# EAGLE library part CON_HEADER_1X06 (library dp_devices)
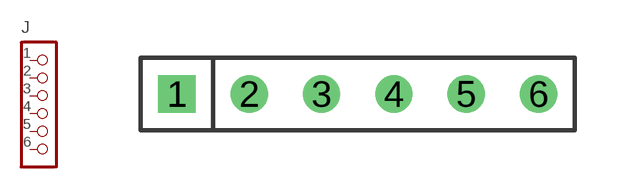
[diagram p8: symbol with the pads of M1X6; footprint M1X6]

Designator prefix J

## CON_HEADER_1X06-PTH  [M1X6]
1  1
2  2
3  3  pas
4  4  pas
5  5  pas
6  6  pas

## Footprint M1X6 (pad centres in mm)
drill 0.8 square: 1 0,0
drill 0.8 round: 2 2.54,0; 3 5.08,0; 4 7.62,0; 5 10.16,0; 6 12.7,0